# EAGLE library part ISP_CONN (library 2000dB)
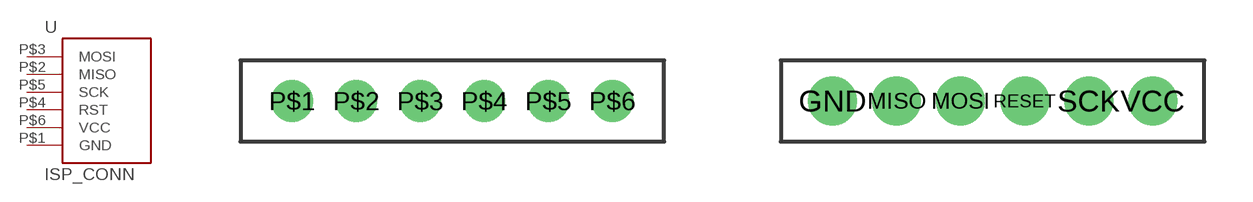
[diagram p15: symbol with the pads of INLINE_ISP; footprints INLINE_ISP, INLINE_ISP_POGO]

Designator prefix -

## ISP_CONN2MM_PITCH  [INLINE_ISP]
P$1  GND
P$2  MISO
P$3  MOSI
P$4  RST
P$5  SCK
P$6  VCC

## ISP_CONNPOGO_2MM_PITCH  [INLINE_ISP_POGO]
GND  GND
MISO  MISO
MOSI  MOSI
RESET  RST
SCK  SCK
VCC  VCC

## Footprint INLINE_ISP (pad centres in mm)
drill 0.8 round: P$1 -5,0; P$2 -3,0; P$3 -1,0; P$4 1,0; P$5 3,0; P$6 5,0

## Footprint INLINE_ISP_POGO (pad centres in mm)
drill 1.02 round: GND -5,0; MISO -3,0; MOSI -1,0; RESET 1,0; SCK 3,0; VCC 5,0